# EAGLE library part 08POS-*MM-? (library con-wurth-board-header)
Wurth Elektronik WR-BHD Male Box Headers ;
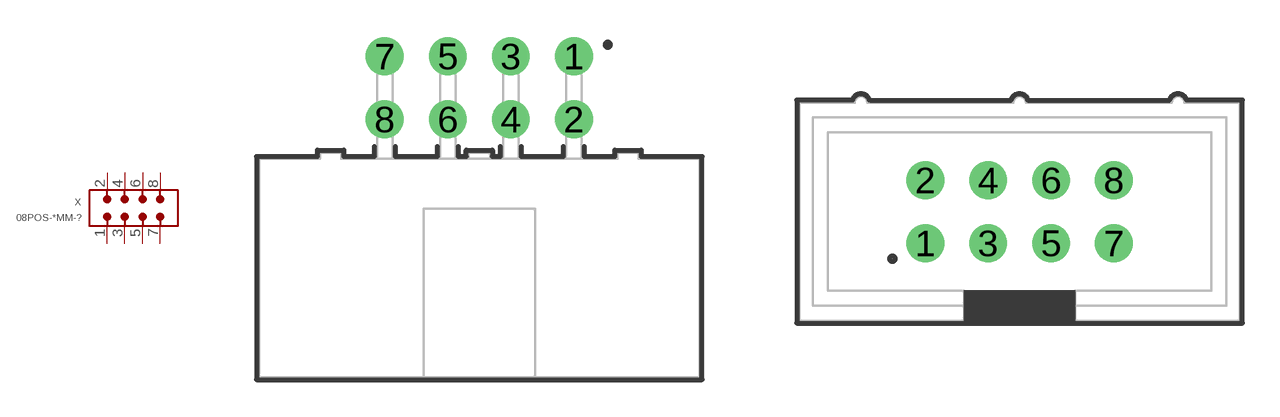
[diagram p219: symbol with the pads of 612008235221; footprints 612008235221, 612008235121]

Designator prefix X

## 08POS-2.54MM-612008235221 (CONTACT-RESISTANCE: 20mOhm; DATASHEET-URL: https://www.we-online.com/redexpert/spec/612008235221?ae; GENDER: Male; IR: 3A; LENGTH: 17.78mm; MOUNT: THT; PACKAGING: Tray; PART-NUMBER: 612008235221; PINS: 8; PITCH: 2.54 mm; TYPE: Angled; VALUE: 612008235221; WORKING-VOLTAGE: 250V(AC))  [612008235221]
1  1  pas
2  2  pas
3  3  pas
4  4  pas
5  5  pas
6  6  pas
7  7  pas
8  8  pas

## 08POS-2.54MM-612008235121 (CONTACT-RESISTANCE: 20mOhm; DATASHEET-URL: https://www.we-online.com/redexpert/spec/612008235121?ae; GENDER: Male; IR: 3A; LENGTH: 17.78mm; MOUNT: THT; PACKAGING: Tray; PART-NUMBER: 612008235121; PINS: 8; PITCH: 2.54 mm; TYPE: Straight; VALUE: 612008235121; WORKING-VOLTAGE: 250V(AC))  [612008235121]
Pads as for 612008235221

## 08POS-2.54MM-61200820621 (CONTACT-RESISTANCE: 20mOhm; DATASHEET-URL: https://www.we-online.com/redexpert/spec/61200820621?ae; GENDER: Male; IR: 3A; LENGTH: 17.96mm; MOUNT: SMT; PACKAGING: Tube; PART-NUMBER: 61200820621; PINS: 8; PITCH: 2.54 mm; TYPE: Straight; VALUE: 61200820621; WORKING-VOLTAGE: 250V(AC))  [61200820621]
Pads as for 612008235221

## 08POS-2.54MM-61200821721 (CONTACT-RESISTANCE: 20mOhm; DATASHEET-URL: https://www.we-online.com/redexpert/spec/61200821721?ae; GENDER: Male; IR: 3A; LENGTH: 17.82mm; MOUNT: THT; PACKAGING: Tray; PART-NUMBER: 61200821721; PINS: 8; PITCH: 2.54 mm; TYPE: Angled; VALUE: 61200821721; WORKING-VOLTAGE: 250V(AC))  [61200821721]
Pads as for 612008235221

## 08POS-2.54MM-61200821621 (CONTACT-RESISTANCE: 20mOhm; DATASHEET-URL: https://www.we-online.com/redexpert/spec/61200821621?ae; GENDER: Male; IR: 3A; LENGTH: 17.82mm; MOUNT: THT; PACKAGING: Tray; PART-NUMBER: 61200821621; PINS: 8; PITCH: 2.54 mm; TYPE: Straight; VALUE: 61200821621; WORKING-VOLTAGE: 250V(AC))  [61200821621]
Pads as for 612008235221

## 08POS-2.54MM-61200822323 (CONTACT-RESISTANCE: 20mOhm; DATASHEET-URL: https://www.we-online.com/redexpert/spec/61200822323?ae; GENDER: Transition; IR: 1A; LENGTH: 15.61mm; MOUNT: THT; PACKAGING: Tray; PART-NUMBER: 61200822323; PINS: 8; PITCH: 2.54 mm; TYPE: Straight; VALUE: 61200822323; WORKING-VOLTAGE: 250V(AC))  [61200822323]
Pads as for 612008235221

## Footprint 612008235221 (pad centres in mm)
WR-BHD 2.54 mm Male Angled Box Header High Temperature,8 Pins
drill 1.02: 1 3.81,8.54; 2 3.81,6; 3 1.27,8.54; 4 1.27,6; 5 -1.27,8.54; 6 -1.27,6; 7 -3.81,8.54; 8 -3.81,6

## Footprint 612008235121 (pad centres in mm)
WR-BHD 2.54 mm Male Box Header High Temperature, 8 Pins
drill 1.02: 1 -3.81,-1.27; 2 -3.81,1.27; 3 -1.27,-1.27; 4 -1.27,1.27; 5 1.27,-1.27; 6 1.27,1.27; 7 3.81,-1.27; 8 3.81,1.27

## Footprint 61200820621 (pad centres in mm)
WR-BHD 2.54 mm Male SMT Box Header,,8 pins
smd 1 x 3.75: 1 -3.81,-3.375; 2 -3.81,3.375; 3 -1.27,-3.375; 4 -1.27,3.375; 5 1.27,-3.375; 6 1.27,3.375; 7 3.81,-3.375; 8 3.81,3.375

## Footprint 61200821721 (pad centres in mm)
WR-BHD 2.54 mm Male Angled Box Header, 8 Pins
drill 1.1: 1 3.81,8.805; 2 3.81,6.265; 3 1.27,8.805; 4 1.27,6.265; 5 -1.27,8.805; 6 -1.27,6.265; 7 -3.81,8.805; 8 -3.81,6.265

## Footprint 61200821621 (pad centres in mm)
WR-BHD 2.54 mm Male Box Header, 8 Pins
drill 1.1: 1 -3.81,-1.27; 2 -3.81,1.27; 3 -1.27,-1.27; 4 -1.27,1.27; 5 1.27,-1.27; 6 1.27,1.27; 7 3.81,-1.27; 8 3.81,1.27

## Footprint 61200822323 (pad centres in mm)
WR-BHD 2.54mm Board to Cable Transition Connector, 8 Pins
drill 1.02: 1 -2.54,-1.27; 2 -2.54,1.27; 3 0,-1.27; 4 0,1.27; 5 2.54,-1.27; 6 2.54,1.27; 7 5.08,-1.27; 8 5.08,1.27